# Altium schematic symbol library aab_Schlib.SchLib: 16 symbols
Pins are listed as number, name and electrical type; pins without a type are passive.

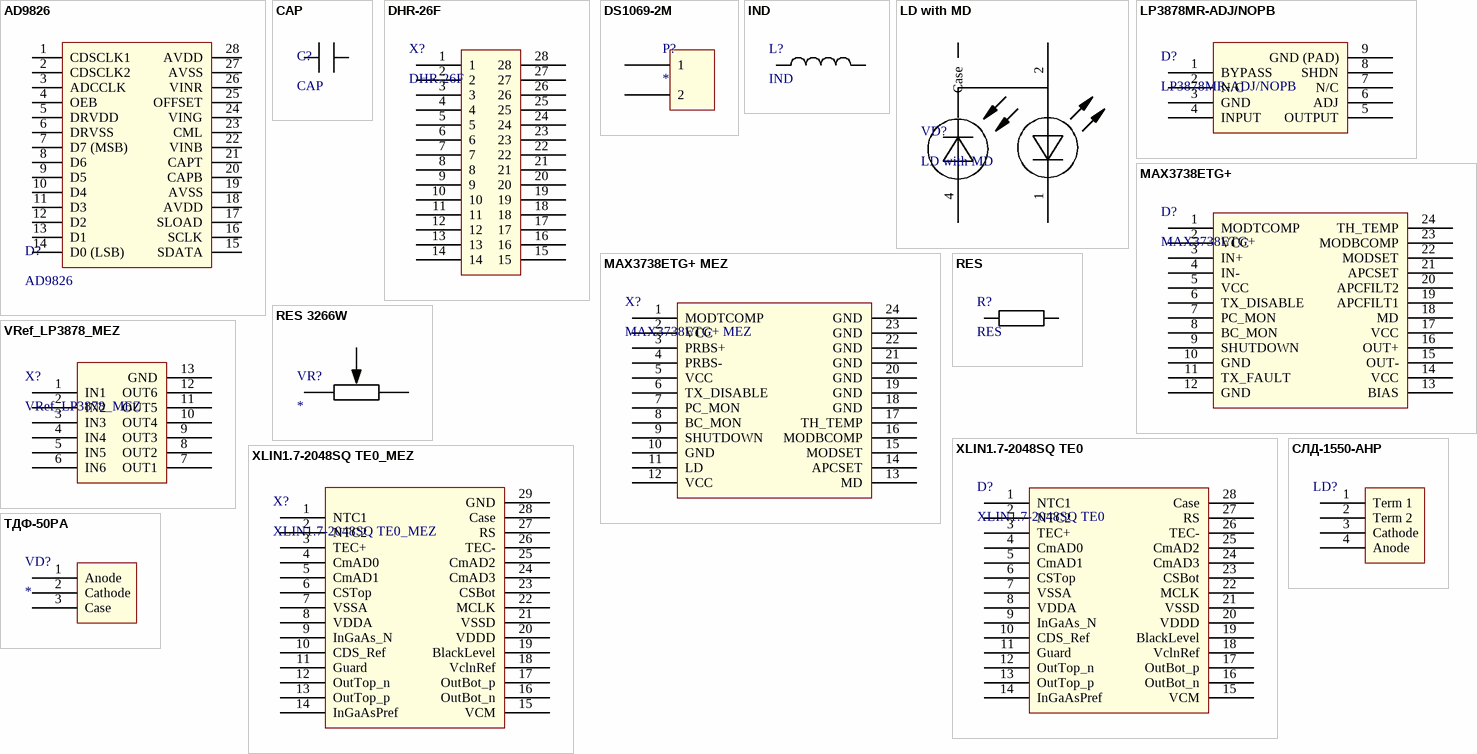
[diagram p0: symbols AD9826 to ТДФ-50РА]

## AD9826
designator D?
footprint AD9826 (SSOP, 28-Leads, Body 10,20x5,30mm, Pitch 0,65mm, IPC Medium Density)
pins: 1 CDSCLK1, 2 CDSCLK2, 3 ADCCLK, 4 OEB, 5 DRVDD, 6 DRVSS, 7 D7 (MSB) , 8 D6, 9 D5, 10 D4, 11 D3, 12 D2, 13 D1, 14 D0 (LSB), 15 SDATA, 16 SCLK, 17 SLOAD, 18 AVDD, 19 AVSS, 20 CAPB, 21 CAPT, 22 VINB, 23 CML, 24 VING, 25 OFFSET, 26 VINR, 27 AVSS, 28 AVDD

## CAP
designator C?
footprint CAP_1812
footprint CAP_0603
pins: 1, 2

## DHR-26F
designator X?
footprint DHR-26F
pins: 1, 2, 3, 4, 5, 6, 7, 8, 9, 10, 11, 12, 13, 14, 15, 16, 17, 18, 19, 20, 21, 22, 23, 24, 25, 26, 27, 28

## DS1069-2M
designator P?
footprint DS1069-2M
pins: 1, 2

## IND
designator L?
footprint IND_0805
pins: 1, 2

## LD with MD
designator VD?
footprint AMP_VOLTMETER
pins: 1, 2, 3 Case, 4

## LP3878MR-ADJ/NOPB
designator D?
footprint LP3878MR-ADJ/NOPB (SOIC, 8-Leads, Body 4,90x3,90mm, Pitch 1,27mm, Thermal Pad 3,10x2,41mm, IPC Medium Density)
pins: 1 BYPASS, 2 N/C, 3 GND, 4 INPUT, 5 OUTPUT, 6 ADJ, 7 N/C, 8 SHDN, 9 GND (PAD)

## MAX3738ETG+
designator D?
footprint MAX3738ETG+ (QFN, 24-Leads, Body 4,00x4,00mm, Pitch 0,50mm, Thermal Pad 2,54x2,54mm, IPC Medium Density)
pins: 1 MODTCOMP, 2 VCC, 3 IN+, 4 IN-, 5 VCC, 6 TX_DISABLE, 7 PC_MON, 8 BC_MON, 9 SHUTDOWN, 10 GND, 11 TX_FAULT, 12 GND, 13 BIAS, 14 VCC, 15 OUT-, 16 OUT+, 17 VCC, 18 MD, 19 APCFILT1, 20 APCFILT2, 21 APCSET, 22 MODSET, 23 MODBCOMP, 24 TH_TEMP

## MAX3738ETG+ MEZ
designator X?
footprint MAX3738ETG+ MEZ
pins: 1 MODTCOMP, 2 VCC, 3 PRBS+, 4 PRBS-, 5 VCC, 6 TX_DISABLE, 7 PC_MON, 8 BC_MON, 9 SHUTDOWN, 10 GND, 11 LD, 12 VCC, 13 MD, 14 APCSET, 15 MODSET, 16 MODBCOMP, 17 TH_TEMP, 18 GND, 19 GND, 20 GND, 21 GND, 22 GND, 23 GND, 24 GND

## RES
designator R?
footprint RES_0805
footprint RES_1206
pins: 1, 2

## RES 3266W
designator VR?
footprint RES 3266W
pins: 1, 2, 3

## VRef_LP3878_MEZ
designator X?
footprint VRef_LP3878_MEZ
pins: 1 IN1, 2 IN2, 3 IN3, 4 IN4, 5 IN5, 6 IN6, 7 OUT1, 8 OUT2, 9 OUT3, 10 OUT4, 11 OUT5, 12 OUT6, 13 GND

## XLIN1.7-2048SQ TE0
designator D?
footprint XLIN1.7-2048SQ TE0
pins: 1 NTC1, 2 NTC2, 3 TEC+, 4 CmAD0, 5 CmAD1, 6 CSTop, 7 VSSA, 8 VDDA, 9 InGaAs_N, 10 CDS_Ref, 11 Guard, 12 OutTop_n, 13 OutTop_p, 14 InGaAsPref, 15 VCM, 16 OutBot_n, 17 OutBot_p, 18 VclnRef, 19 BlackLevel, 20 VDDD, 21 VSSD, 22 MCLK, 23 CSBot, 24 CmAD3, 25 CmAD2, 26 TEC-, 27 RS, 28 Case

## XLIN1.7-2048SQ TE0_MEZ
designator X?
footprint XLIN1.7-2048SQ TE0_MEZ
pins: 1 NTC1, 2 NTC2, 3 TEC+, 4 CmAD0, 5 CmAD1, 6 CSTop, 7 VSSA, 8 VDDA, 9 InGaAs_N, 10 CDS_Ref, 11 Guard, 12 OutTop_n, 13 OutTop_p, 14 InGaAsPref, 15 VCM, 16 OutBot_n, 17 OutBot_p, 18 VclnRef, 19 BlackLevel, 20 VDDD, 21 VSSD, 22 MCLK, 23 CSBot, 24 CmAD3, 25 CmAD2, 26 TEC-, 27 RS, 28 Case, 29 GND

## СЛД-1550-АНР
designator LD?  (value not drawn)
footprint СЛД-1550-АНР
pins: 1 Term 1, 2 Term 2, 3 Cathode, 4 Anode

## ТДФ-50РА
designator VD?
footprint ТДФ-50РА
pins: 1 Anode, 2 Cathode, 3 Case